# Altium footprint library electronpowered.PcbLib: 83 footprints (part 1 of 6)
Each footprint in its own frame and in the unit in brackets; x right, y up, seen from the top. Pads: shape width x height; smd on the part's side, far side on the other; paste and mask are expansions set on the pad; w line width, h text height; cw(c..) or ccw(c..) is an arc to the next point about the centre after c.
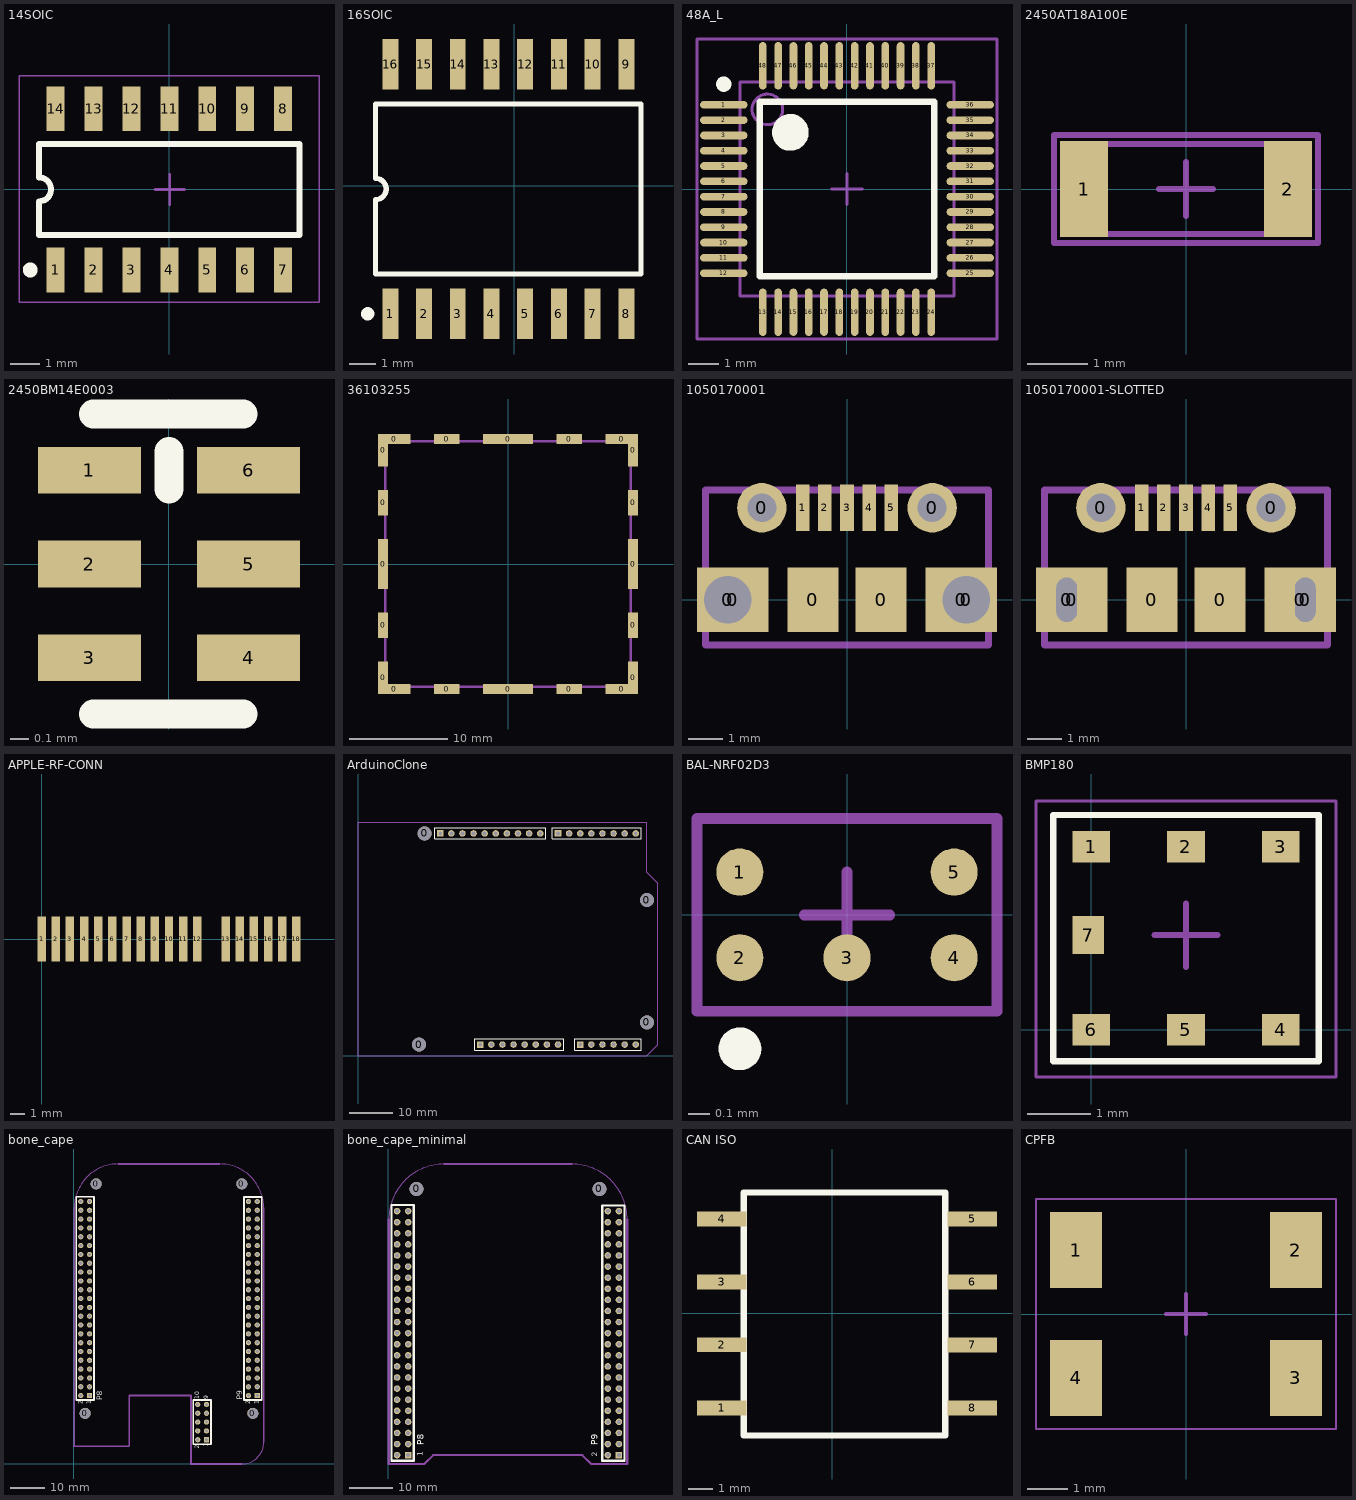
[diagram p0: the footprints below, top view; thin cyan lines are the x and y axes]

## 14SOIC [mm]
height 1.75
pads (14):
  rect 0.6x1.5 smd: 1(-3.799,-2.7) 2(-2.529,-2.7) 3(-1.259,-2.7) 4(0.011,-2.7) 5(1.281,-2.7) 6(2.551,-2.7) 7(3.821,-2.7) 8(3.821,2.7) 9(2.551,2.7) 10(1.281,2.7) 11(0.011,2.7) 12(-1.259,2.7) 13(-2.529,2.7) 14(-3.799,2.7)
Top Overlay:
  circle w0.25: c-4.649,-2.7 r0.125
  lines w0.2: -4.354,-0.4 -4.354,-1.525 4.375,-1.525 4.375,1.525 -4.354,1.525 -4.354,0.425 ; -4.35,-0.4 ccw(c-4.35,0) -4.35,0.4
Top Courtyard:
  lines w0.05: -5.025,-3.775 -5.025,3.8 5.025,3.8 5.025,-3.775 -5.025,-3.775
  lines w0.1: -0.475,0 0.525,0 ; 0.025,-0.5 0.025,0.5
3D body: height 1, standoff 0, extent -4.375,-1.625 4.375,1.625

## 16SOIC [mm]
pads (16):
  rect 0.6x1.9 smd: 1(-4.674,-4.822) 2(-3.404,-4.822) 3(-2.134,-4.822) 4(-0.864,-4.822) 5(0.406,-4.822) 6(1.676,-4.822) 7(2.946,-4.822) 8(4.216,-4.822) 9(4.216,4.577) 10(2.946,4.577) 11(1.676,4.577) 12(0.406,4.577) 13(-0.864,4.577) 14(-2.134,4.577) 15(-3.404,4.577) 16(-4.674,4.577)
Top Overlay:
  circle w0.25: c-5.524,-4.822 r0.125
  lines w0.2: -5.229,-3.323 4.771,-3.323 4.771,3.077 -5.229,3.077 -5.229,0.278 cw(c-5.229,-0.122) -5.229,-0.522 -5.229,-3.322

## 48A_L [mm] "48-Pin Thin Quad Flat Pack 0.5 mm Pitch, IPC High Density"
height 1.6
pads (48):
  oval 1.55x0.25 smd: 1(-4.025,2.75) 2(-4.025,2.25) 3(-4.025,1.75) 4(-4.025,1.25) 5(-4.025,0.75) 6(-4.025,0.25) 7(-4.025,-0.25) 8(-4.025,-0.75) 9(-4.025,-1.25) 10(-4.025,-1.75) 11(-4.025,-2.25) 12(-4.025,-2.75) 25(4.025,-2.75) 26(4.025,-2.25) 27(4.025,-1.75) 28(4.025,-1.25) 29(4.025,-0.75) 30(4.025,-0.25) 31(4.025,0.25) 32(4.025,0.75) 33(4.025,1.25) 34(4.025,1.75) 35(4.025,2.25) 36(4.025,2.75)
  oval 0.25x1.55 smd: 13(-2.75,-4.025) 14(-2.25,-4.025) 15(-1.75,-4.025) 16(-1.25,-4.025) 17(-0.75,-4.025) 18(-0.25,-4.025) 19(0.25,-4.025) 20(0.75,-4.025) 21(1.25,-4.025) 22(1.75,-4.025) 23(2.25,-4.025) 24(2.75,-4.025) 37(2.75,4.025) 38(2.25,4.025) 39(1.75,4.025) 40(1.25,4.025) 41(0.75,4.025) 42(0.25,4.025) 43(-0.25,4.025) 44(-0.75,4.025) 45(-1.25,4.025) 46(-1.75,4.025) 47(-2.25,4.025) 48(-2.75,4.025)
Top Overlay:
  circle w0.25: c-4.025,3.425 r0.125
  circle w0.6: c-1.85,1.85 r0.3
  lines w0.2: -2.85,-2.85 -2.85,2.85 2.85,2.85 2.85,-2.85 -2.85,-2.85
Top Comp Body:
  circle w0.1: c-2.6,2.6 r0.5
  lines w0.1: -3.5,-3.5 -3.5,3.5 3.5,3.5 3.5,-3.5 -3.5,-3.5
Top Courtyard:
  lines w0.1: -0.5,0 0.5,0 ; 0,-0.5 0,0.5 ; -4.9,-4.9 -4.9,4.9 4.9,4.9 4.9,-4.9 -4.9,-4.9
3D body: height 1.6, standoff 0, extent -3.5,-3.5 3.5,3.5

## 2450AT18A100E [mm] "ANTENNA CHIP 2.4GHZ"
height 1.3
pads (2):
  rect 0.8x1.6 smd: 1(-1.7,0) 2(1.7,0)
Top Comp Body:
  lines w0.1: -2.05,-0.75 2.05,-0.75 2.05,0.75 -2.05,0.75 -2.05,-0.75
Top Courtyard:
  lines w0.1: -0.45,0 0.45,0 ; 0,-0.45 0,0.45 ; 2.2,-0.9 -2.2,-0.9 -2.2,0.9 2.2,0.9 2.2,-0.9 ; 2.2,-0.9 2.2,-0.9
3D body: height 1.3, standoff 0, extent -2.1,-0.8 2.1,0.8

## 2450BM14E0003 [mm]
pads (6):
  rect 0.55x0.25 smd: 1(-0.425,0.5) 2(-0.425,0) 3(-0.425,-0.5) 4(0.425,-0.5) 5(0.425,0) 6(0.425,0.5)
Top Overlay:
  lines w0.152: -0.405,-0.8 0.395,-0.8 ; -0.405,0.8 0.395,0.8 ; 0,0.4 0,0.6
3D body: height 0.6, standoff 0, extent -0.405,-0.8 0.395,0.8
3D body: height 0.62, standoff 0, extent -0.41,0.4 -0.26,0.6
3D body: height 0.62, standoff 0, extent -0.41,-0.1 -0.26,0.1
3D body: height 0.62, standoff 0, extent -0.41,-0.6 -0.26,-0.4
3D body: height 0.62, standoff 0, extent 0.26,-0.6 0.41,-0.4
3D body: height 0.62, standoff 0, extent 0.26,-0.1 0.41,0.1
3D body: height 0.62, standoff 0, extent 0.26,0.4 0.41,0.6
3D body: height 0.62, standoff 0, extent -0.04,0.4 0.04,0.6

## 36103255 [mm] "WURTH RF SHIELD 25x25"
height 3
pads (20):
  rect 1x3.3 smd: 0(-12.75,-11.6) 0(-12.75,11.6) 0(12.75,-11.6) 0(12.75,11.6)
  rect 1x2.6 smd: 0(-12.75,-6.25) 0(-12.75,6.25) 0(12.75,-6.25) 0(12.75,6.25)
  rect 1x5.1 smd: 0(-12.75,0) 0(12.75,0)
  rect 3.3x1 smd: 0(-11.6,-12.75) 0(-11.6,12.75) 0(11.6,-12.75) 0(11.6,12.75)
  rect 2.6x1 smd: 0(-6.25,-12.75) 0(-6.25,12.75) 0(6.25,-12.75) 0(6.25,12.75)
  rect 5.1x1 smd: 0(0,-12.75) 0(0,12.75)
Top Comp Body:
  lines w0.254: -12.5,-12.5 12.5,-12.5 12.5,12.5 -12.5,12.5 -12.5,-12.5

## 1050170001 [mm] "CONN USB MICRO MOLEX MODIFIED FOR DRILL HITS"
pads (13):
  round 1.8 hole 1.4: 0(-3.5,0) 0(3.5,0)
  rect 2.1x1.9 smd: 0(-3.35,0) 0(3.35,0)
  round 1.45 hole 0.85: 0(-2.5,2.7) 0(2.5,2.7)
  rect 1.5x1.9 smd: 0(-1,0) 0(1,0)
  rect 0.4x1.35 smd: 1(-1.3,2.7) 2(-0.65,2.7) 3(0,2.7) 4(0.65,2.7) 5(1.3,2.7)
Top Courtyard:
  lines w0.2: 4.1,3.225 -4.15,3.225 -4.15,-1.325 4.15,-1.325 4.15,3.225
3D body "1050170001.stp": height 2.78, standoff -0.53, extent -4.1,-2.5 4.1,2.9

## 1050170001-SLOTTED [mm] "CONN USB MICRO MOLEX ORIGINAL SLOTTED"
pads (13):
  rect 1x1.4 hole 0.6 slot 1.3 at 90 deg: 0(-3.5,0) 0(3.5,0)
  rect 2.1x1.9 smd: 0(-3.35,0) 0(3.35,0)
  round 1.45 hole 0.85: 0(-2.5,2.7) 0(2.5,2.7)
  rect 1.5x1.9 smd: 0(-1,0) 0(1,0)
  rect 0.4x1.35 smd: 1(-1.3,2.7) 2(-0.65,2.7) 3(0,2.7) 4(0.65,2.7) 5(1.3,2.7)
Top Courtyard:
  lines w0.2: 4.1,3.225 -4.15,3.225 -4.15,-1.325 4.15,-1.325 4.15,3.225
3D body "1050170001.stp": height 2.78, standoff -0.53, extent -4.1,-2.5 4.1,2.9

## APPLE-RF-CONN [mm] "Apple RF connector pad footprint"
pads (18):
  rect 0.6x3.2 smd: 1(0,0) 2(1,0) 3(2,0) 4(3,0) 5(4,0) 6(5,0) 7(6,0) 8(7,0) 9(8,0) 10(9,0) 11(10,0) 12(11,0) 13(13,0) 14(14,0) 15(15,0) 16(16,0) 17(17,0) 18(18,0)

## ArduinoClone [mm] "Base for Arduino-like boards."
pads (36):
  round 3.175 hole 3.175: 0(13.97,2.54) 0(15.24,50.8) 0(66.04,7.62) 0(66.04,35.56)
  round 1.5 hole 0.9: 0(63.5,50.8) 1(60.96,50.8) 2(58.42,50.8) 3(55.88,50.8) 3v3(35.56,2.54) 3v3(38.1,2.54) 4(53.34,50.8) 5(50.8,50.8) 6(48.26,50.8) 8(41.656,50.8) 9(39.116,50.8) 10(36.576,50.8) 11(34.036,50.8) 12(31.496,50.8) 13(28.956,50.8) A1(53.34,2.54) A2(55.88,2.54) A3(58.42,2.54) A4(60.96,2.54) A5(63.5,2.54) AREF(23.876,50.8) GND(26.416,50.8) GND(40.64,2.54) GND(43.18,2.54) IOREF(30.48,2.54) RESET(33.02,2.54) SDA(21.336,50.8) VIN(45.72,2.54)
  rect 1.5x1.5 hole 0.9: 1(27.94,2.54) 7(45.72,50.8) A0(50.8,2.54) SCL(18.796,50.8)
Top Overlay:
  lines w0.2: 17.526,49.53 17.526,52.07 19.431,52.07 42.926,52.07 42.926,49.53 17.526,49.53 ; 26.67,1.27 26.67,3.81 46.99,3.81 46.99,1.27 26.67,1.27 ; 44.45,49.53 64.77,49.53 64.77,52.07 44.45,52.07 44.45,49.53 ; 49.53,1.27 64.77,1.27 64.77,3.81 49.53,3.81 49.53,1.27
Board Outline:
  lines w0.254: 0,0 0,53.34 66.04,53.34 66.04,41.91 68.58,39.37 68.58,2.54 67.246,1.206 66.04,0 0,0

## BAL-NRF02D3 [mm] "50 ohm nominal input / conjugate match balun to nRF51822-CEAA"
height 0.63
pads (5):
  round 0.22 smd mask+0.05: 1(-0.5,0.2) 2(-0.5,-0.2) 3(0,-0.2) 4(0.5,-0.2) 5(0.5,0.2)
Top Overlay:
  circle w0.1: c-0.5,-0.625 r0.05
Top Courtyard:
  lines w0.05: -0.2,0 0.2,0 ; 0,-0.2 0,0.2 ; -0.7,-0.45 -0.7,0.45 0.7,0.45 0.7,-0.45 -0.7,-0.45

## BMP180 [mm]
height 0.2
pads (7):
  rect 0.6x0.5 smd: 1(0,2.9) 2(1.5,2.9) 3(3,2.9) 4(3,0) 5(1.5,0) 6(0,0)
  rect 0.5x0.6 smd: 7(-0.05,1.5)
Top Overlay:
  lines w0.1: -0.6,-0.5 -0.6,3.4 3.6,3.4 3.6,-0.5 -0.6,-0.5
Top Courtyard:
  lines w0.05: -0.875,-0.75 3.875,-0.75 3.875,3.625 -0.875,3.625 -0.875,-0.75
  lines w0.1: 1,1.5 2,1.5 ; 1.5,1 1.5,2

## bone_cape [mm]
pads (106):
  round 3.175 hole 3.175: 0(3.302,14.478) 0(6.477,80.518) 0(48.387,80.518) 0(51.562,14.478)
  round 1.5 hole 0.9: A5(50.292,62.738) A5(52.832,62.738) A7(50.292,65.278) A10(50.292,29.718) A13(52.832,57.658) A14(52.832,50.038) A16(52.832,39.878) A17(50.292,44.958) B6(52.832,67.818) B7(52.832,65.278) B13(52.832,55.118) B16(50.292,39.878) B17(52.832,44.958) BAT(35.687,6.858) BAT_ISET2(38.227,11.938) BAT_SENSE(38.227,9.398) BAT_TEMP(35.687,9.398) BL_IN(35.687,14.478) BL_ISET1(35.687,11.938) BL_OUT(38.227,14.478) BL_SINK1(38.227,17.018) BL_SINK2(35.687,17.018) C7(50.292,67.818) C8(52.832,60.198) C12(50.292,52.578) C13(52.832,52.578) C18(50.292,70.358) D12(50.292,55.118) D14(52.832,70.358) D15(50.292,47.498) D16(50.292,50.038) D17(52.832,42.418) D18(50.292,42.418) GND(2.032,19.558) GND(50.292,19.558) GND(50.292,72.898) GND(50.292,75.438) GND(52.832,72.898) GND(52.832,75.438) GNDA_ADC(50.292,60.198) PWR_BUT(52.832,29.718) R1(2.032,75.438) R2(4.572,75.438) R3(2.032,72.898) R4(4.572,72.898) R5(2.032,55.118) R6(4.572,55.118) R13(52.832,37.338) SYS_5V(2.032,27.178) SYS_5V(50.292,27.178) SYS_5V(52.832,27.178) SYS_RESET(2.032,29.718) T1(2.032,70.358) T2(4.572,70.358) T3(2.032,67.818) T4(4.572,67.818) T5(4.572,57.658) T7(4.572,27.178) T8(4.572,24.638) T9(4.572,22.098) T11(4.572,34.798) T12(4.572,32.258) T14(2.032,37.338) T14(50.292,37.338) T17(52.832,32.258) U1(2.032,65.278) U2(4.572,65.278) U3(4.572,62.738) U4(4.572,60.198) U5(2.032,52.578) U6(4.572,29.718) U7(2.032,50.038) U8(2.032,47.498) U9(2.032,44.958) U10(2.032,42.418) U12(2.032,39.878) U14(2.032,34.798) U14(50.292,34.798) U17(52.832,34.798) U18(2.032,32.258) U18(50.292,32.258) V2(2.032,62.738) V3(2.032,60.198) V4(2.032,57.658) V5(4.572,52.578) V6(4.572,50.038) V7(4.572,47.498) V8(4.572,44.958) V9(4.572,42.418) V12(4.572,39.878) V13(4.572,37.338) V14(52.832,47.498) VDD_3V3(2.032,22.098) VDD_3V3(50.292,22.098) VDD_3V3(52.832,22.098) VDD_5V(2.032,24.638) VDD_5V(50.292,24.638) VDD_5V(52.832,24.638) VDD_ADC(50.292,57.658)
  rect 1.5x1.5 hole 0.9: BAT(38.227,6.858) GND(4.572,19.558) GND(52.832,19.558)
Top Overlay:
  lines w0.5: 0.762,18.288 0.762,76.835 5.842,76.835 5.842,18.288 0.762,18.288 ; 34.417,5.588 34.417,18.288 39.497,18.288 39.497,5.588 34.417,5.588 ; 49.022,18.288 49.022,76.708 54.102,76.708 54.102,18.288 49.022,18.288
  text "2" at 2.54,17.018 h1.27
  text "1" at 5.08,17.018 h1.27
  text "2" at 50.8,17.018 h1.27
  text "1" at 53.34,17.018 h1.27
  text "P8" at 8.255,18.288 h1.52
  text "P9" at 48.514,18.415 h1.52
  text "10" at 36.195,18.542 h1.27
  text "9" at 38.735,18.542 h1.27
  text "1" at 38.735,4.826 h1.27
  text "2" at 36.195,4.318 h1.27
Board Outline:
  lines w0.254: 0.127,73.533 cw(c12.827,73.533) 12.827,86.233 ; 42.037,86.233 cw(c42.037,73.533) 54.737,73.533 ; 48.387,-0.127 ccw(c48.387,6.223) 54.737,6.223
  lines w0.5: 0.127,73.533 0.127,4.953 16.002,4.953 16.002,19.558 33.782,19.558 33.782,-0.127 48.387,-0.127 ; 12.827,86.233 42.037,86.233 ; 54.737,6.223 54.737,73.533

## bone_cape_minimal [mm]
pads (94):
  round 3.175 hole 3.175: 0(6.477,80.518) 0(48.387,80.518)
  round 1.5 hole 0.9: A5(50.292,62.738) A5(52.832,62.738) A7(50.292,65.278) A10(50.292,29.718) A13(52.832,57.658) A14(52.832,50.038) A16(52.832,39.878) A17(50.292,44.958) B6(52.832,67.818) B7(52.832,65.278) B13(52.832,55.118) B16(50.292,39.878) B17(52.832,44.958) C7(50.292,67.818) C8(52.832,60.198) C12(50.292,52.578) C13(52.832,52.578) C18(50.292,70.358) D12(50.292,55.118) D14(52.832,70.358) D15(50.292,47.498) D16(50.292,50.038) D17(52.832,42.418) D18(50.292,42.418) GND(2.032,19.558) GND(50.292,19.558) GND(50.292,72.898) GND(50.292,75.438) GND(52.832,72.898) GND(52.832,75.438) GNDA_ADC(50.292,60.198) PWR_BUT(52.832,29.718) R1(4.572,75.438) R2(2.032,75.438) R3(4.572,72.898) R4(2.032,72.898) R5(4.572,55.118) R6(2.032,55.118) R7(4.572,27.178) R8(4.572,24.638) R9(4.572,22.098) R12(4.572,32.258) R13(52.832,37.338) SYS_5V(50.292,27.178) SYS_5V(52.832,27.178) T1(4.572,70.358) T2(2.032,70.358) T3(4.572,67.818) T4(2.032,67.818) T5(2.032,57.658) T6(4.572,29.718) T7(2.032,27.178) T8(2.032,24.638) T9(2.032,22.098) T10(4.572,34.798) T11(2.032,34.798) T12(2.032,32.258) T14(50.292,37.338) T17(52.832,32.258) U1(4.572,65.278) U2(2.032,65.278) U3(2.032,62.738) U4(2.032,60.198) U5(4.572,52.578) U6(2.032,29.718) U7(4.572,50.038) U8(4.572,47.498) U9(4.572,44.958) U10(4.572,42.418) U12(4.572,39.878) U13(4.572,37.338) U14(50.292,34.798) U17(52.832,34.798) U18(50.292,32.258) V2(4.572,62.738) V3(4.572,60.198) V4(4.572,57.658) V5(2.032,52.578) V6(2.032,50.038) V7(2.032,47.498) V8(2.032,44.958) V9(2.032,42.418) V12(2.032,39.878) V13(2.032,37.338) V14(52.832,47.498) VDD_3V3(50.292,22.098) VDD_3V3(52.832,22.098) VDD_5V(50.292,24.638) VDD_5V(52.832,24.638) VDD_ADC(50.292,57.658)
  rect 1.5x1.5 hole 0.9: GND(4.572,19.558) GND(52.832,19.558)
Top Overlay:
  lines w0.5: 0.762,18.288 0.762,76.835 5.842,76.835 5.842,18.288 0.762,18.288 ; 49.022,18.288 49.022,76.708 54.102,76.708 54.102,18.288 49.022,18.288
  text "1" at 7.874,19.304 h1.27
  text "2" at 47.879,19.177 h1.27
  text "P8" at 8.128,21.844 h1.52
  text "P9" at 48.006,21.844 h1.52
Board Outline:
  lines w0.254: 0.127,73.533 cw(c12.827,73.533) 12.827,86.233 ; 42.037,86.233 cw(c42.037,73.533) 54.737,73.533
  lines w0.5: 0.127,17.526 0.127,73.533 ; 12.827,86.233 42.037,86.233 ; 54.737,17.526 54.737,73.533
  lines w0.508: 0.127,17.526 8.255,17.526 10.287,19.558 44.45,19.558 46.482,17.526 54.61,17.526

## CAN ISO [mm] "Fixed 28-01-11"
pads (8):
  rect 2x0.6 smd: 1(-4.445,-3.81) 2(-4.445,-1.265) 3(-4.445,1.27) 4(-4.445,3.81) 5(5.655,3.81) 6(5.655,1.27) 7(5.655,-1.27) 8(5.655,-3.81)
Top Overlay:
  lines w0.254: -3.556,-4.928 -3.556,4.877 4.572,4.877 4.572,-4.928 -3.556,-4.928

## CPFB [mm] "CPF Crystal"
pads (4):
  rect 1.3x1.9 smd: 1(-2.75,1.6) 2(2.75,1.6) 3(2.75,-1.6) 4(-2.75,-1.6)
Top Courtyard:
  lines w0.05: -3.75,-2.875 3.75,-2.875 3.75,2.875 -3.75,2.875 -3.75,-2.875
  lines w0.1: -0.5,0 0.5,0 ; 0,-0.5 0,0.5
3D body: height 1, standoff 0, extent -3.502,-2.652 3.502,2.652